# Altium schematic symbol library PCB_BusinessCard.SCHLIB: 2 symbols
Pins are listed as number, name and electrical type; pins without a type are passive.

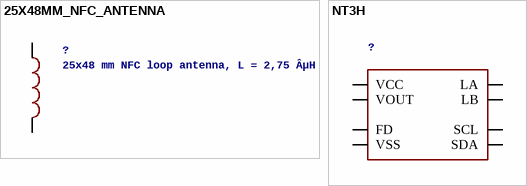
[diagram p0: symbols 25X48MM_NFC_ANTENNA to NT3H]

## 25X48MM_NFC_ANTENNA
designator ?, comment 25x48 mm NFC loop antenna, L = 2,75 ÂµH
GateName_1: G$1; DeviceSetName: 25X48MM_NFC_ANTENNA; SymbolName_1: ANTENNA; LibraryName: PCB_BusinessCard; Package: 25X48MM_NFC_ANTENNA
footprint 25X48MM_NFC_ANTENNA
pins: P$1, P$2

## NT3H
designator ?, comment NXP NTAG NT3H  (value not drawn)
GateName_1: G$1; SymbolName_1: NT3H; LibraryName: PCB_BusinessCard; DeviceSetName: NT3H; Package: XQFN8
footprint XQFN8
pins: FD, LA, LB, SCL, SDA, VCC, VOUT, VSS